# Altium schematic symbol library isolatedGateDriver.SchLib: 6 symbols
Pins are listed as number, name and electrical type; pins without a type are passive.

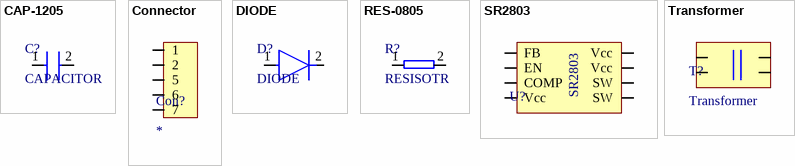
[diagram p0: symbols CAP-1205 to Transformer]

## CAP-1205
designator C?, comment CAPACITOR
pins: 1, 2

## Connector
designator Con?
pins: 1, 2, 5, 6, 7

## DIODE
designator D?
pins: 1 Anode, 2 K

## RES-0805
designator R?, comment RESISOTR
pins: 1, 2

## SR2803
designator U?  (value not drawn)
pins: 1 FB, 2 EN, 3 COMP, 4 Vcc, 5 SW, 6 SW, 7 Vcc, 8 Vcc

## Transformer
designator T?
pins: 1, 2, 3, 4